# EAGLE library part 62101421021 (library Wurth_Elektronik2)
WR-PHD 1.27mm Dual SMT Pin Header H=3.80 mm, 14 Pins=>Code : Con_BTB_PHD_1.27_2_62101421021 <http://katalog.we-online.de/media/thumbs2/eican/thb_Con_BTB_PHD_1.27_2_6210xx21021_pf2.jpg> Details see: http://katalog.we-online.de/en/em/621_0xx_210_21 Created 2014-06-03, Karrer Zheng 2014 (C) Würth Elektronik
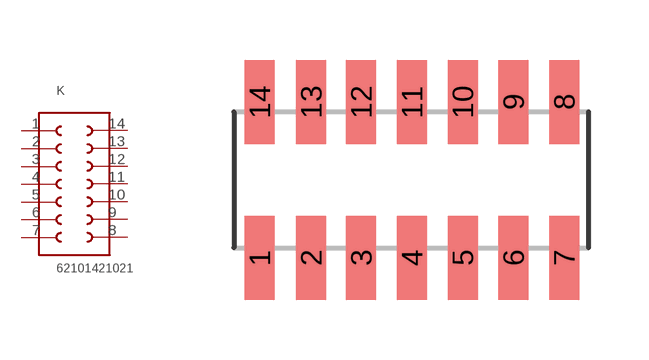
[diagram p292: symbol with the pads of 62101421021; footprint 62101421021]

Designator prefix K

## 62101421021  [62101421021]
1  1  pas
2  2  pas
3  3  pas
4  4  pas
5  5  pas
6  6  pas
7  7  pas
8  8  pas
9  9  pas
10  10  pas
11  11  pas
12  12  pas
13  13  pas
14  14  pas

## Footprint 62101421021 (pad centres in mm)
WR-PHD 1.27mm Dual SMT Pin Header H=3.80 mm, 14 Pins
smd 0.75 x 2.1: 1 -4.445,-1.95; 2 -3.157,-1.95; 3 -1.905,-1.95; 4 -0.635,-1.95; 5 0.635,-1.95; 6 1.905,-1.95; 7 3.175,-1.95; 8 3.175,1.95; 9 1.905,1.95; 10 0.635,1.95; 11 -0.635,1.95; 12 -1.905,1.95; 13 -3.157,1.95; 14 -4.445,1.95